# Altium footprint library ASI_CAN_Conv.PcbLib: 30 footprints (part 2 of 2)
Each footprint in its own frame and in the unit in brackets; x right, y up, seen from the top. Pads: shape width x height; smd on the part's side, far side on the other; paste and mask are expansions set on the pad; w line width, h text height; cw(c..) or ccw(c..) is an arc to the next point about the centre after c.
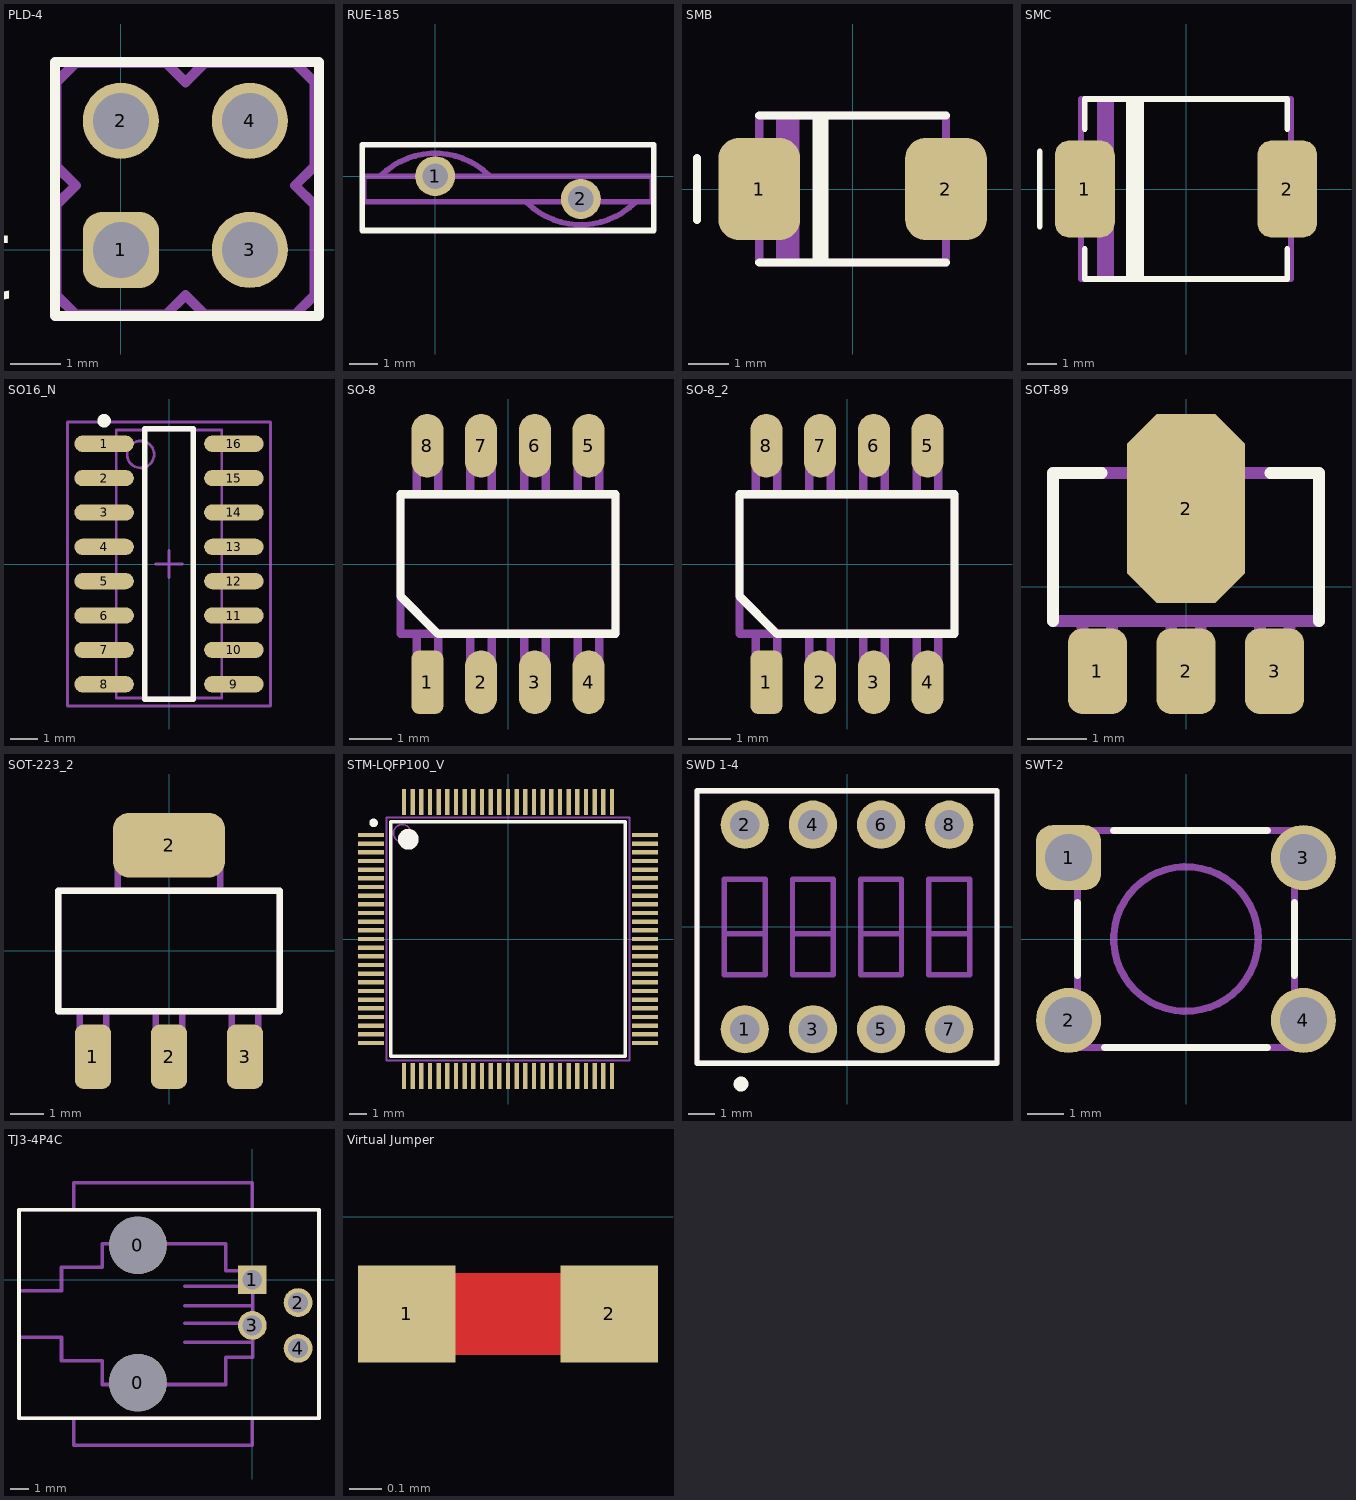
[diagram p1: the footprints below, top view; thin cyan lines are the x and y axes]

## PLD-4 [mm]
pads (4):
  rrect50% 1.5x1.5 hole 1.1: 1(0,0)
  round 1.5 hole 1.1: 2(0,2.54) 3(2.54,0) 4(2.54,2.54)
Top Overlay:
  lines w0.2: -1.3,-1.3 -1.3,3.7 3.9,3.7 3.9,1.2 3.9,-1.3 -1.3,-1.3
  text "1" at -2.007,0.279 h1.3
Mechanical 1:
  lines w0.2: -1.27,-0.889 -0.889,-1.27 0.889,-1.27 1.27,-0.889 1.651,-1.27 3.429,-1.27 3.81,-0.889 3.81,0.889 3.429,1.27 3.81,1.651 3.81,3.302 3.429,3.683 1.651,3.683 1.27,3.302 0.889,3.683 -0.889,3.683 -1.27,3.302 -1.27,1.651 -0.889,1.27 -1.27,0.889 -1.27,-0.889 ; -0.3,-0.3 0.3,-0.3 0.3,0.3 -0.3,0.3 -0.3,-0.3 ; -0.3,2.24 0.3,2.24 0.3,2.84 -0.3,2.84 -0.3,2.24 ; 2.24,-0.3 2.84,-0.3 2.84,0.3 2.24,0.3 2.24,-0.3 ; 2.24,2.24 2.84,2.24 2.84,2.84 2.24,2.84 2.24,2.24
3D body "PLD4.STEP": height 10.1, standoff -1.5, extent -1.27,-1.27 3.81,3.81

## RUE-185 [mm]
pads (2):
  round 1.4 hole 0.9: 1(0,0) 2(5.1,-0.8)
Top Overlay:
  lines w0.2: -2.55,-1.9 -2.55,1.1 7.65,1.1 7.65,-1.9 -2.55,-1.9
Mechanical 1:
  lines w0.2: -1.909,0.009 cw(c0,-1.9) 1.909,0.009 ; 3.191,-0.909 ccw(c5.1,1) 7.009,-0.909 ; -2.5,-0.9 -2.5,0 7.6,0 7.6,-0.9 -2.5,-0.9
3D body "RUE185.STEP": height 15.54, standoff -2.69, extent -2.547,-2 7.653,1.1

## SMB [mm]
pads (2):
  rrect50% 2x2.5 smd: 1(-2.286,0) 2(2.286,0)
Top Overlay:
  lines w0.2: -3.81,-0.762 -3.81,0.762 ; -2.286,-1.8 2.286,-1.8 ; -2.286,1.8 2.286,1.8 ; -0.886,-1.8 -0.886,1.8 ; -0.686,-1.8 -0.686,1.8
Mechanical 1:
  lines w0.2: -2.286,-1 -2.686,-1 -2.686,1 -2.286,1 ; -1.778,-1.8 -1.778,1.8 ; -1.651,-1.8 -1.651,1.8 ; -1.524,-1.8 -1.524,1.8 ; -1.397,-1.8 -1.397,1.8 ; 2.286,-1 2.686,-1 2.686,1 2.286,1 ; -2.286,-1.8 -2.286,1.8 2.286,1.8 2.286,-1.8 -2.286,-1.8
3D body "SW3dPS-DO-214AA SMB.STEP": height 2.3, standoff 0, extent -2.649,-1.803 2.751,1.797

## SMC [mil]
pads (2):
  rrect50% 80x130 smd: 1(-135,0) 2(135,0)
Top Overlay:
  lines w7.87: -195,-50 -195,50 ; -135,-80 -135,-120 135,-120 135,-80 ; -135,80 -135,120 135,120 135,80 ; -75.94,-120 -75.94,120 ; -68.07,-120 -68.07,120 ; -60.2,-120 -60.2,120
Mechanical 1:
  lines w7.87: -140,-59.06 -154.69,-59.06 -154.69,59.06 -140,59.06 ; -115,-120 -115,120 ; -110,-120 -110,120 ; -105,-120 -105,120 ; -100,-120 -100,120 ; 140,-59.06 154.68,-59.06 154.68,59.06 140,59.06 ; -140,-120 140,-120 140,120 -140,120 -140,-120
3D body "SW3dPS-DO-214AB SMC.STEP": height 90.73, standoff -0.02, extent -156.68,-116.14 156.31,116.14

## SO16_N [mm]
pads (16):
  oval 2.2x0.6 smd: 1(-2.4,4.445) 2(-2.4,3.175) 3(-2.4,1.905) 4(-2.4,0.635) 5(-2.4,-0.635) 6(-2.4,-1.905) 7(-2.4,-3.175) 8(-2.4,-4.445) 9(2.4,-4.445) 10(2.4,-3.175) 11(2.4,-1.905) 12(2.4,-0.635) 13(2.4,0.635) 14(2.4,1.905) 15(2.4,3.175) 16(2.4,4.445)
Top Overlay:
  circle w0.25: c-2.4,5.295 r0.125
  lines w0.2: -0.9,-5 0.9,-5 0.9,5 -0.9,5 -0.9,-5
Mechanical 13:
  circle w0.1: c-1.05,4.05 r0.5
  lines w0.1: -1.95,-4.625 -2.875,-4.625 -2.875,-4.275 -1.95,-4.275 ; -1.95,-3.35 -2.875,-3.35 -2.875,-3 -1.95,-3 ; -1.95,-2.075 -2.9,-2.075 -2.9,-1.725 -1.95,-1.725 ; -1.95,-0.8 -2.9,-0.8 -2.9,-0.45 -1.95,-0.45 ; -1.95,0.475 -2.9,0.475 -2.9,0.825 -1.95,0.825 ; -1.95,1.75 -2.9,1.75 -2.9,2.1 -1.95,2.1 ; -1.95,3 -2.9,3 -2.9,3.35 -1.95,3.35 ; -1.95,4.3 -2.9,4.3 -2.9,4.65 -1.95,4.65 ; 1.95,-4.6 2.9,-4.6 2.9,-4.25 1.95,-4.25 ; 1.95,-3.325 2.9,-3.325 2.9,-2.975 1.95,-2.975 ; 1.95,-2.025 2.9,-2.025 2.9,-1.675 1.95,-1.675 ; 1.95,-0.775 2.9,-0.775 2.9,-0.425 1.95,-0.425 ; 1.95,0.5 2.9,0.5 2.9,0.85 1.95,0.85 ; 1.95,1.775 2.9,1.775 2.9,2.125 1.95,2.125 ; 1.95,3.05 2.9,3.05 2.9,3.4 1.95,3.4 ; 1.95,4.325 2.875,4.325 2.875,4.675 1.95,4.675 ; -1.95,-4.95 1.95,-4.95 1.95,4.95 -1.95,4.95 -1.95,-4.95
Mechanical 15:
  lines w0.1: -0.5,0 0.5,0 ; 0,-0.5 0,0.5 ; -3.75,-5.25 3.75,-5.25 3.75,5.25 -3.75,5.25 -3.75,-5.25
3D body "User Library-so16-1.step": height 1.75, standoff -0.02, extent -3.068,-4.985 3.068,4.985

## SO-8 [mm]
pads (8):
  rrect50% 0.76x1.5 smd: 1(-1.905,-2.794)
  oval 0.76x1.5 smd: 2(-0.635,-2.794) 3(0.635,-2.794) 4(1.905,-2.794) 5(1.905,2.794) 6(0.635,2.794) 7(-0.635,2.794) 8(-1.905,2.794)
Top Overlay:
  lines w0.2: -2.54,-0.762 -1.651,-1.651 2.54,-1.651 2.54,1.651 -2.54,1.651 -2.54,-0.762
Mechanical 1:
  lines w0.2: -2.54,-0.762 -1.651,-1.651 -1.651,-2.921 -2.159,-2.921 -2.159,-1.651 ; -2.159,1.651 -2.159,2.921 -1.651,2.921 -1.651,1.651 ; -0.889,-1.651 -0.889,-2.921 -0.381,-2.921 -0.381,-1.651 ; -0.889,1.651 -0.889,2.921 -0.381,2.921 -0.381,1.651 ; 0.381,-1.651 0.381,-2.921 0.889,-2.921 0.889,-1.651 ; 0.381,1.651 0.381,2.921 0.889,2.921 0.889,1.651 ; 1.651,-1.651 1.651,-2.921 2.159,-2.921 2.159,-1.651 ; 1.651,1.651 1.651,2.921 2.159,2.921 2.159,1.651 ; -2.54,-1.651 2.54,-1.651 2.54,1.651 -2.54,1.651 -2.54,-1.651
3D body "SO8.STEP": height 1.9, standoff 0, extent -2.504,-3.164 2.5,3.175

## SO-8_2 [mm]
pads (8):
  rrect50% 0.76x1.5 smd: 1(-1.905,-2.794)
  oval 0.76x1.5 smd: 2(-0.635,-2.794) 3(0.635,-2.794) 4(1.905,-2.794) 5(1.905,2.794) 6(0.635,2.794) 7(-0.635,2.794) 8(-1.905,2.794)
Top Overlay:
  lines w0.2: -2.54,-0.762 -2.54,1.651 2.54,1.651 2.54,-1.651 -1.651,-1.651 -2.54,-0.762
Mechanical 1:
  lines w0.2: -2.54,-0.762 -1.651,-1.651 -1.651,-2.921 -2.159,-2.921 -2.159,-1.651 ; -2.159,1.651 -2.159,2.921 -1.651,2.921 -1.651,1.651 ; -0.889,-1.651 -0.889,-2.921 -0.381,-2.921 -0.381,-1.651 ; -0.889,1.651 -0.889,2.921 -0.381,2.921 -0.381,1.651 ; 0.381,-1.651 0.381,-2.921 0.889,-2.921 0.889,-1.651 ; 0.381,1.651 0.381,2.921 0.889,2.921 0.889,1.651 ; 1.651,-1.651 1.651,-2.921 2.159,-2.921 2.159,-1.651 ; 1.651,1.651 1.651,2.921 2.159,2.921 2.159,1.651 ; -2.54,-1.651 -2.54,1.651 2.54,1.651 2.54,-1.651 -2.54,-1.651
3D body "SO8.STEP": height 1.9, standoff 0, extent -2.504,-3.164 2.5,3.175

## SOT-89 [mm]
pads (4):
  rrect50% 1x1.45 smd: 1(-1.5,-1.425) 2(0,-1.425) 3(1.5,-1.425)
  oct 2x3.2 smd: 2(0,1.325)
Top Overlay:
  lines w0.2: -2.25,-0.575 -2.25,1.925 -1.425,1.925 ; 1.425,1.925 2.25,1.925 2.25,-0.575
Mechanical 1:
  lines w0.2: -1.75,-0.575 -1.75,-1.575 -1.25,-1.575 -1.25,-0.575 ; -0.75,1.925 -0.75,2.175 -0.5,2.425 0.5,2.425 0.75,2.175 0.75,1.925 ; -0.25,-0.575 -0.25,-1.575 0.25,-1.575 0.25,-0.575 ; 1.25,-0.575 1.25,-1.575 1.75,-1.575 1.75,-0.575 ; -2.25,-0.575 2.25,-0.575 2.25,1.925 -2.25,1.925 -2.25,-0.575
3D body "User Library-SOT-89-1.step": height 1.51, standoff 0, extent -2.25,-1.625 2.25,2.675

## SOT-223_2 [mm]
pads (4):
  rrect50% 1.1x1.95 smd: 1(-2.3,-3.2) 2(0,-3.2) 3(2.3,-3.2)
  rrect50% 3.4x1.95 smd: 2(0,3.2)
Top Overlay:
  lines w0.2: -3.35,-1.825 -3.35,1.825 3.35,1.825 3.35,-1.825 -3.35,-1.825
Mechanical 1:
  lines w0.2: -2.7,-1.825 -2.7,-3.525 -1.9,-3.525 -1.9,-1.825 ; -1.55,1.825 -1.55,3.525 1.55,3.525 1.55,1.825 ; -0.4,-1.825 -0.4,-3.525 0.4,-3.525 0.4,-1.825 ; 1.9,-1.825 1.9,-3.525 2.7,-3.525 2.7,-1.825 ; -3.35,-1.825 -3.35,1.825 3.35,1.825 3.35,-1.825 -3.35,-1.825
3D body "Sot223.STEP": height 1.67, standoff 0, extent -3.274,-3.669 3.226,3.263

## STM-LQFP100_V [mm]
pads (100):
  rect 1.5x0.25 smd mask+0.075: 1(-7.9,6) 2(-7.9,5.5) 3(-7.9,5) 4(-7.9,4.5) 5(-7.9,4) 6(-7.9,3.5) 7(-7.9,3) 8(-7.9,2.5) 9(-7.9,2) 10(-7.9,1.5) 11(-7.9,1) 12(-7.9,0.5) 13(-7.9,0) 14(-7.9,-0.5) 15(-7.9,-1) 16(-7.9,-1.5) 17(-7.9,-2) 18(-7.9,-2.5) 19(-7.9,-3) 20(-7.9,-3.5) 21(-7.9,-4) 22(-7.9,-4.5) 23(-7.9,-5) 24(-7.9,-5.5) 25(-7.9,-6) 51(7.9,-6) 52(7.9,-5.5) 53(7.9,-5) 54(7.9,-4.5) 55(7.9,-4) 56(7.9,-3.5) 57(7.9,-3) 58(7.9,-2.5) 59(7.9,-2) 60(7.9,-1.5) 61(7.9,-1) 62(7.9,-0.5) 63(7.9,0) 64(7.9,0.5) 65(7.9,1) 66(7.9,1.5) 67(7.9,2) 68(7.9,2.5) 69(7.9,3) 70(7.9,3.5) 71(7.9,4) 72(7.9,4.5) 73(7.9,5) 74(7.9,5.5) 75(7.9,6)
  rect 0.25x1.5 smd mask+0.075: 26(-6,-7.9) 27(-5.5,-7.9) 28(-5,-7.9) 29(-4.5,-7.9) 30(-4,-7.9) 31(-3.5,-7.9) 32(-3,-7.9) 33(-2.5,-7.9) 34(-2,-7.9) 35(-1.5,-7.9) 36(-1,-7.9) 37(-0.5,-7.9) 38(0,-7.9) 39(0.5,-7.9) 40(1,-7.9) 41(1.5,-7.9) 42(2,-7.9) 43(2.5,-7.9) 44(3,-7.9) 45(3.5,-7.9) 46(4,-7.9) 47(4.5,-7.9) 48(5,-7.9) 49(5.5,-7.9) 50(6,-7.9) 76(6,7.9) 77(5.5,7.9) 78(5,7.9) 79(4.5,7.9) 80(4,7.9) 81(3.5,7.9) 82(3,7.9) 83(2.5,7.9) 84(2,7.9) 85(1.5,7.9) 86(1,7.9) 87(0.5,7.9) 88(0,7.9) 89(-0.5,7.9) 90(-1,7.9) 91(-1.5,7.9) 92(-2,7.9) 93(-2.5,7.9) 94(-3,7.9) 95(-3.5,7.9) 96(-4,7.9) 97(-4.5,7.9) 98(-5,7.9) 99(-5.5,7.9) 100(-6,7.9)
Top Overlay:
  circle w0.6: c-5.75,5.75 r0.3
  circle w0.25: c-7.75,6.7 r0.125
  lines w0.2: -6.75,-6.75 6.75,-6.75 6.75,6.75 -6.75,6.75 -6.75,-6.75
Mechanical 13:
  circle w0.1: c-6.1,6.1 r0.5
  lines w0.1: -7,-7 7,-7 7,7 -7,7 -7,-7
3D body "User Library-LQFP100.step": height 1.6, standoff 0, extent -8,-8 8,8

## SWD 1-4 [mm]
pads (8):
  round 1.8 hole 1.1: 1(-3.81,-3.81) 2(-3.81,3.81) 3(-1.27,-3.81) 4(-1.27,3.81) 5(1.27,-3.81) 6(1.27,3.81) 7(3.81,-3.81) 8(3.81,3.81)
Top Overlay:
  circle w0.3: c-3.947,-5.852 r0.125
  lines w0.2: -5.588,-5.08 5.588,-5.08 5.588,5.08 -5.588,5.08 -5.588,-5.08
Mechanical 1:
  lines w0.2: -4.572,-0.254 -3.048,-0.254 ; -2.032,-0.254 -0.508,-0.254 ; 0.508,-0.254 2.032,-0.254 ; 3.048,-0.254 4.572,-0.254 ; -5.588,-5.08 5.588,-5.08 5.588,5.08 -5.588,5.08 -5.588,-5.08 ; -4.572,-1.778 -3.048,-1.778 -3.048,1.778 -4.572,1.778 -4.572,-1.778 ; -2.032,-1.778 -0.508,-1.778 -0.508,1.778 -2.032,1.778 -2.032,-1.778 ; 0.508,-1.778 0.508,1.778 2.032,1.778 2.032,-1.778 0.508,-1.778 ; 3.048,-1.778 3.048,1.778 4.572,1.778 4.572,-1.778 3.048,-1.778
  text "ON" at -8.509,5.867 h1.3
3D body "User Library-DIP-Schalter SMD 4polig RM2 54.step": height 3.3, standoff -0.9, extent -5.125,-3.91 5.035,3.71

## SWT-2 [mm]
pads (4):
  rrect50% 1.8x1.8 hole 1.3: 1(-3.25,2.25)
  round 1.8 hole 1.3: 2(-3.25,-2.25) 3(3.25,2.25) 4(3.25,-2.25)
Top Overlay:
  lines w0.2: -3,-1 -3,1 ; -2.25,-3 2.25,-3 ; -2,3 2.25,3 ; 3,-1 3,1
Mechanical 1:
  circle w0.2: c0,0 r2
  lines w0.2: -3,-3 -3,3 0,3 3,3 3,-3 -3,-3
3D body "SWT2.STEP": height 5.4, standoff -4.5, extent -3.868,-2.95 3.968,3.05

## TJ3-4P4C [mm]
pads (6):
  round 3.2 hole 3.2 unplated: 0(-6.35,-5.715) 0(-6.35,1.905)
  rect 1.6x1.6 hole 1.1: 1(0,0)
  round 1.6 hole 1.1: 2(2.54,-1.27) 3(0,-2.54) 4(2.54,-3.81)
Top Overlay:
  lines w0.2: -12.95,-7.696 3.7,-7.696 3.7,3.886 -12.95,3.886 -12.95,-7.696
Mechanical 1:
  lines w0.2: -12.945,-3.205 -10.593,-3.205 -10.593,-4.505 -8.335,-4.505 -8.335,-5.815 -6.978,-5.815 -6.978,-6.305 -5.473,-6.305 -5.473,-5.815 -1.485,-5.815 -1.485,-4.31 0.02,-4.31 0.02,0.5 -1.485,0.5 -1.485,2.005 -5.473,2.005 -5.473,2.494 -6.978,2.494 -6.978,2.005 -8.335,2.005 -8.335,0.695 -10.593,0.695 -10.593,-0.605 -12.945,-0.605 ; -9.906,-7.696 -9.906,-9.195 0,-9.195 0,-7.696 ; -9.906,3.886 -9.906,5.385 0,5.385 0,3.886 ; -3.757,-2.415 0.005,-2.415 ; -3.757,-0.375 0.02,-0.375 ; -3.752,-3.48 0.015,-3.48 ; -3.752,-1.44 0.005,-1.44 ; -12.95,-7.696 3.7,-7.696 3.7,3.886 -12.95,3.886 -12.95,-7.696
3D body "Mod-Jack-K122009004-Stig-W.STEP": height 16.38, standoff -3.95, extent -12.85,-8.89 3.03,5.08

## Virtual Jumper [mm]
pads (2):
  rect 0.3x0.3 smd paste+0 mask+0: 1(0.25,-0.3) 2(0.875,-0.3)
Top Layer:
  lines w0.254: 0.25,-0.3 0.875,-0.3